# EAGLE library part SN74HC595 (library keir_library)
8-Bit Shift Register (Serial to Parallel) Datasheet <http://www.ti.com/lit/ds/symlink/sn74hc595.pdf> SparkFun Products Shift-In parallel out - SN74HC595
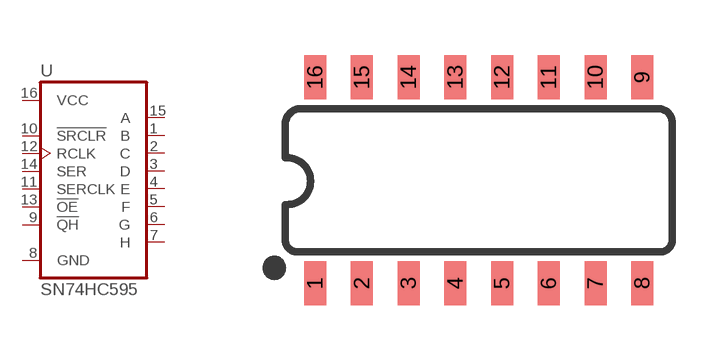
[diagram p2: symbol with the pads of SO16; footprint SO16]

Designator prefix U

## SN74HC595HCD (PROD_ID: IC-11325; VALUE: SN74HC165DR)  [SO16]
1  B  hiz
2  C  hiz
3  D  hiz
4  E  hiz
5  F  hiz
6  G  hiz
7  H  hiz
8  GND  pwr
9  !QH  out
10  !SRCLR  in
11  SERCLK  in
12  RCLK  in
13  !OE  in
14  SER  in
15  A  hiz
16  VCC  pwr

## Footprint SO16 (pad centres in mm)
SOIC, 0.15 inch width
smd 0.6 x 1.2: 1 -4.445,-2.8; 2 -3.175,-2.8; 3 -1.905,-2.8; 4 -0.635,-2.8; 5 0.635,-2.8; 6 1.905,-2.8; 7 3.175,-2.8; 8 4.445,-2.8; 9 4.445,2.8; 10 3.175,2.8; 11 1.905,2.8; 12 0.635,2.8; 13 -0.635,2.8; 14 -1.905,2.8; 15 -3.175,2.8; 16 -4.445,2.8